# Altium schematic symbol library Transistors-BJT.SchLib: 2 symbols
Pins are listed as number, name and electrical type; pins without a type are passive.

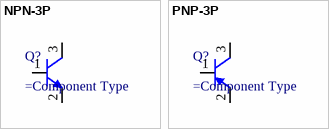
[diagram p0: symbols NPN-3P to PNP-3P]

## NPN-3P
designator Q?
pins: 1 B, 2 E, 3 C

## PNP-3P
designator Q?
pins: 1 B, 2 E, 3 C